# Altium footprint library SMD_6332.PcbLib: 1 footprints
Each footprint in its own frame and in the unit in brackets; x right, y up, seen from the top. Pads: shape width x height; smd on the part's side, far side on the other; paste and mask are expansions set on the pad; w line width, h text height; cw(c..) or ccw(c..) is an arc to the next point about the centre after c.
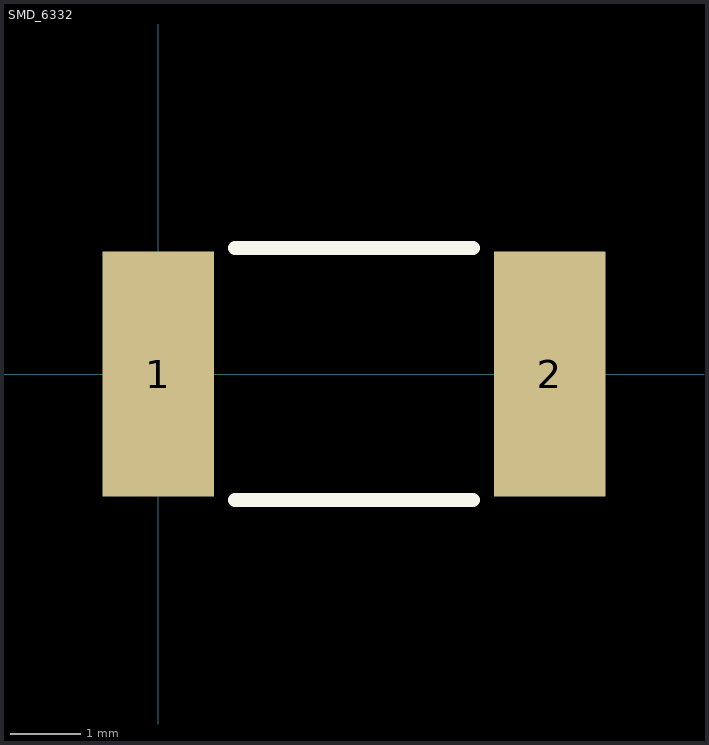
[diagram p0: the footprint, top view; thin cyan lines are the x and y axes]

## SMD_6332 [mm] "Chip Resistor, Body 6.3x3.2mm, IPC High Density"
height 0.9
pads (2):
  rect 1.6x3.5 smd: 1(0,0) 2(5.6,0)
Top Overlay:
  lines w0.2: 1.1,-1.8 4.5,-1.8 ; 1.1,1.8 4.5,1.8
3D body "SMD_RLC_2512.STEP": height 0.59, standoff -0.01, extent -0.331,-1.575 5.969,1.575